# Altium schematic symbol library modulosSchLib.SchLib: 9 symbols
Pins are listed as number, name and electrical type; pins without a type are passive.

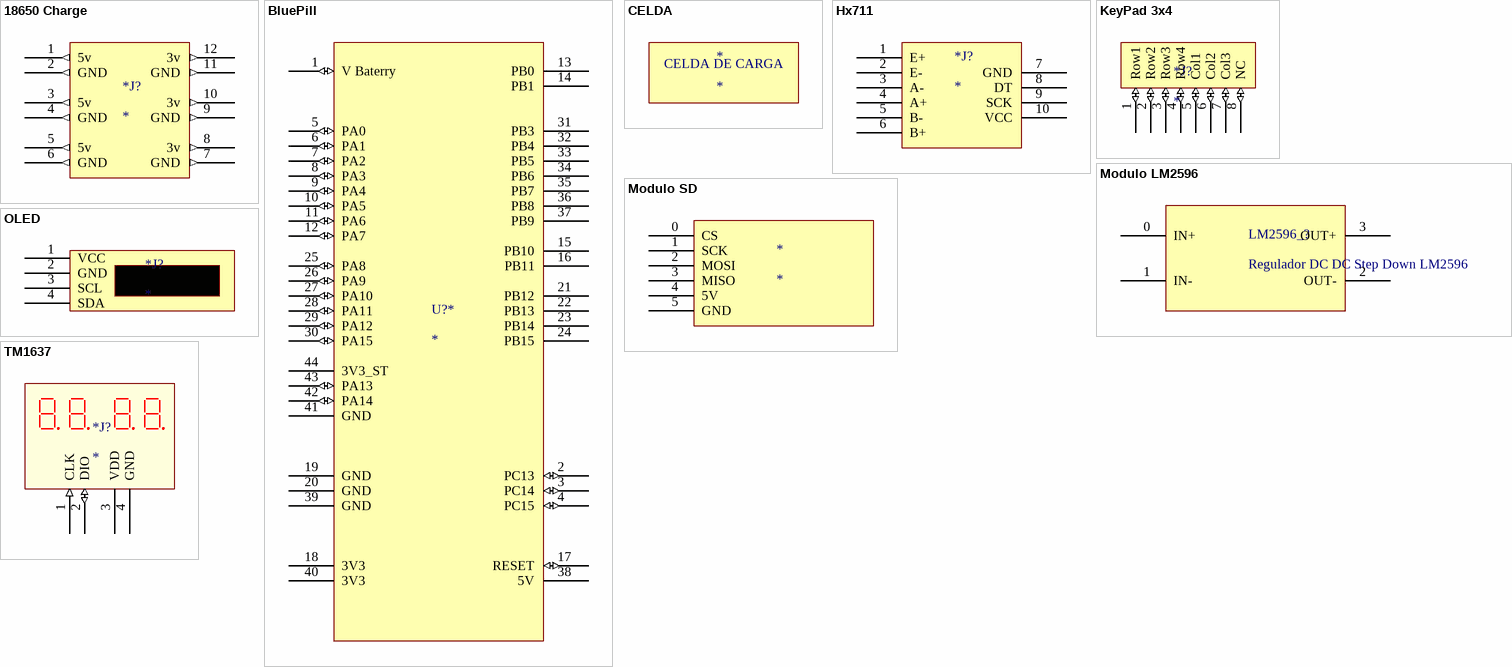
[diagram p0: symbols 18650 Charge to TM1637]

## 18650 Charge
designator *J?
footprint 18650
pins: 1 5v (out), 2 GND (out), 3 5v (out), 4 GND (out), 5 5v (out), 6 GND (out), 7 GND (out), 8 3v (out), 9 GND (out), 10 3v (out), 11 GND (out), 12 3v (out)

## BluePill
designator U?*
footprint BLUEPILL
pins: 1 V Baterry (io), 2 PC13 (io), 3 PC14 (io), 4 PC15 (io), 5 PA0 (io), 6 PA1 (io), 7 PA2 (io), 8 PA3 (io), 9 PA4 (io), 10 PA5 (io), 11 PA6 (io), 12 PA7 (io), 13 PB0, 14 PB1, 15 PB10, 16 PB11, 17 RESET (io), 18 3V3 (power), 19 GND (power), 20 GND (power), 21 PB12, 22 PB13, 23 PB14, 24 PB15, 25 PA8 (io), 26 PA9 (io), 27 PA10 (io), 28 PA11 (io), 29 PA12 (io), 30 PA15 (io), 31 PB3, 32 PB4, 33 PB5, 34 PB6, 35 PB7, 36 PB8, 37 PB9, 38 5V (power), 39 GND (power), 40 3V3 (power), 41 GND (power), 42 PA14 (io), 43 PA13 (io), 44 3V3_ST (power)

## CELDA
designator *
footprint LOADCELL
text: CELDA DE CARGA

## Hx711
designator *J?
footprint HX711
pins: 1 E+, 2 E-, 3 A-, 4 A+, 5 B-, 6 B+, 7 GND, 8 DT, 9 SCK, 10 VCC

## KeyPad 3x4
designator *J?
footprint KEYPAD
pins: 1 Row1 (io), 2 Row2 (io), 3 Row3 (io), 4 Row4 (io), 5 Col1 (io), 6 Col2 (io), 7 Col3 (io), 8 NC (io)

## Modulo LM2596
designator LM2596_?, comment Regulador DC DC Step Down LM2596
footprint LM2596
pins: 0 IN+, 1 IN-, 2 OUT-, 3 OUT+

## Modulo SD
designator *
footprint Modulo SD
pins: 0 CS, 1 SCK, 2 MOSI, 3 MISO, 4 5V, 5 GND

## OLED
designator *J?
footprint OLED
pins: 1 VCC, 2 GND, 3 SCL, 4 SDA

## TM1637
designator *J?
footprint TM1637
pins: 1 CLK (in), 2 DIO (io), 3 VDD (power), 4 GND (power)